# Altium integrated library Flanery.IntLib: 130 symbols (part 1 of 2)
Pins are listed as number, name and electrical type; pins without a type are passive.

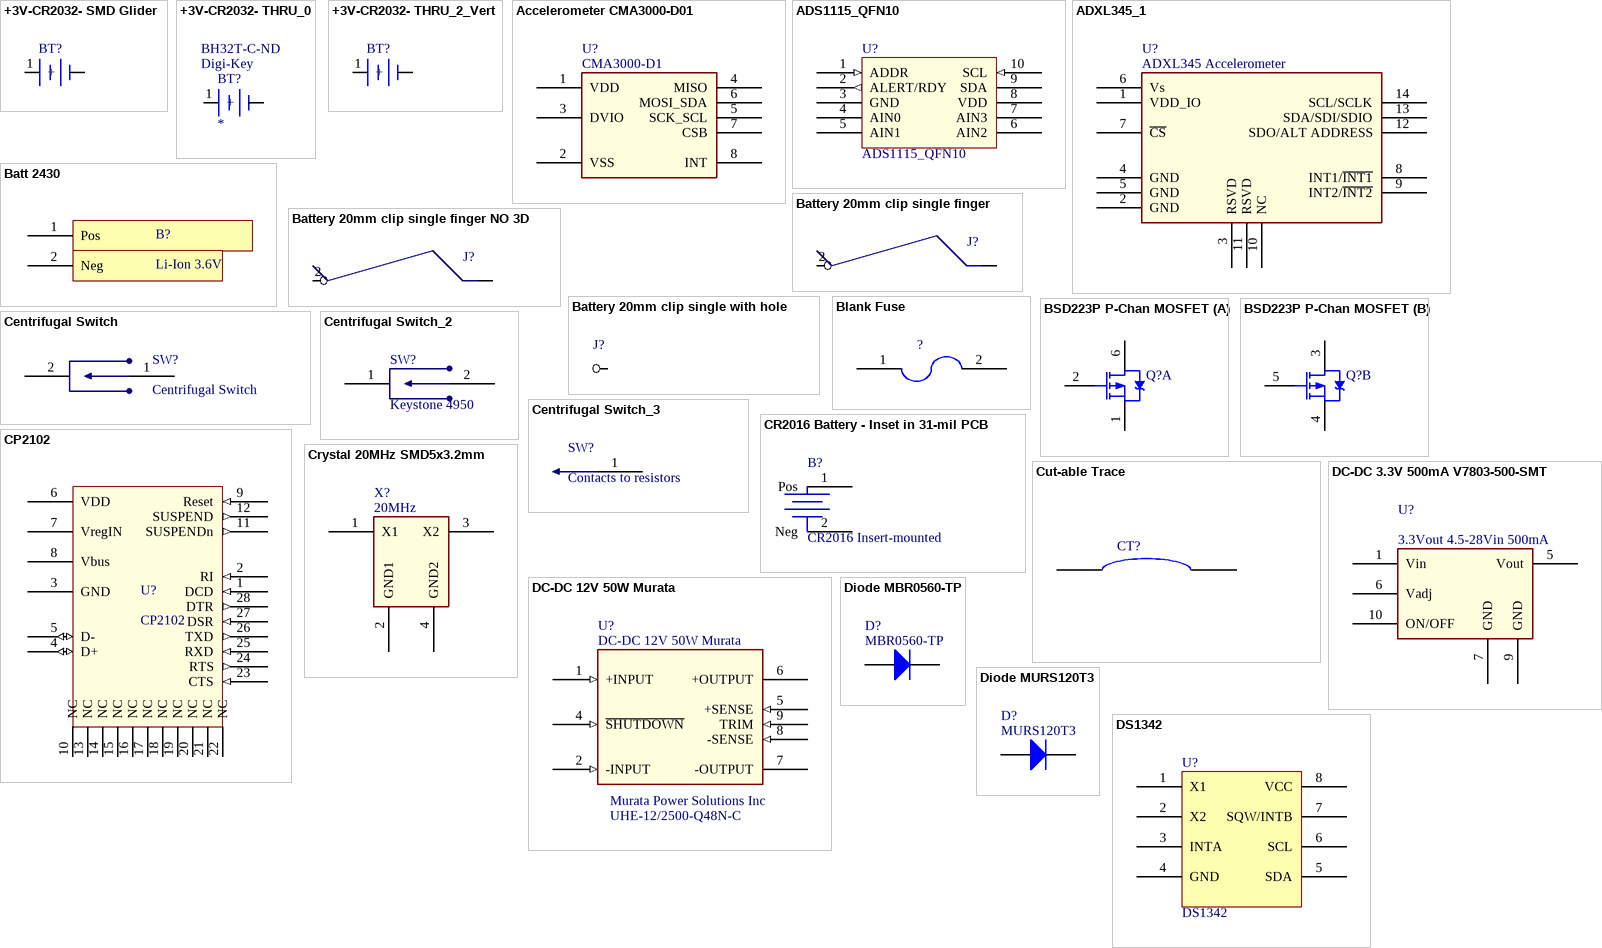
[diagram p0: symbols +3V-CR2032- SMD Glider to DS1342]

## +3V-CR2032- SMD Glider
designator BT?  (value not drawn)
Horizontal, slide-in with tray; Supplier 1: Digi-Key
footprint Batt 2032 Holder_3 (Glider SMD slide-in with tray MPD BHX1-2032-SM)
pins: 1 +, 2 -

## +3V-CR2032- THRU_0
designator BT?  Supplier 1: Digi-Key  Supplier Part Number 1: BH32T-C-ND
Mating Part Number: P189-ND; Manufacturer Part Number: BH32T-C; Footprint: CR2032_+1-2_THRU
footprint BR2032_+1-2
pins: 1 +, 2 -

## +3V-CR2032- THRU_2_Vert
designator BT?  (value not drawn)
Vertical or maybe Horizontal-board-edge mount; Supplier 1: Digi-Key
footprint Batt 2032 Holder_2 (Vertical, slide-in, Memory Protection Devices BS-5, possible board-edge mount)
pins: 1 +, 2 -

## Accelerometer CMA3000-D01
designator U?, comment CMA3000-D1
Accelerometer 2x2x1mm ultra low power; Fabrication Tested: NO; Creator and Date: Will Flanery 2010-08-23; Footprint Verified By: *; Schematic Verified By: *; Vendor Info Verified By: *; Supplier 1: Digi-Key
footprint CMA300-D0x (VTI Tech Accelerometer)
pins: 1 VDD, 2 VSS, 3 DVIO, 4 MISO, 5 SCK_SCL, 6 MOSI_SDA, 7 CSB, 8 INT

## ADS1115_QFN10
designator U?
TI A/D 4Chan uPower I2C; Supplier 1: Digi-Key; HelpURL: http://focus.ti.com/lit/ds/symlink/ads1113.pdf
footprint QFN-10 QFN50P200X150X40-10L (QFN, 10-Leads, Body 1.5x2.0mm (max), Pitch 0.50mm, IPC High Density  TI's RUG)
pins: 1 ADDR (in), 2 ALERT/RDY (out), 3 GND, 4 AIN0, 5 AIN1, 6 AIN2, 7 AIN3, 8 VDD, 9 SDA (oc), 10 SCL (in)

## ADXL345_1
designator U?, comment ADXL345 Accelerometer
Accelerometer +-2g low-power 3x5x1mm; Manufacturer: Analog Devices Inc; Manufacturer Part Number: ADXL345BCCZ-RL7; Fabrication Tested: NO; Creator and Date: Will Flanery 2010-08-23; Footprint Verified By: *; Schematic Verified By: *; Vendor Info Verified By: *; HelpURL: http://www.analog.com/static/imported-files/data_sheets/ADXL345.pdf; Supplier 1: Digi-Key; Supplier Part Number 1: ADXL345BCCZ-RL7CT-ND; Supplier 2: Newark; Supplier Part Number 2: 04R8114
footprint LGA14 3x5mm (For ADXL345 Accelerometer)
pins: 1 VDD_IO, 2 GND, 3 RSVD, 4 GND, 5 GND, 6 Vs, 7 ~{CS}, 8 INT1/~{INT1}, 9 INT2/~{INT2}, 10 NC, 11 RSVD, 12 SDO/ALT ADDRESS, 13 SDA/SDI/SDIO, 14 SCL/SCLK

## Batt 2430
designator B?, comment Li-Ion 3.6V
Battery Holder 2430 coin cell flush-mount; Supplier 1: Digi-Key
footprint Batt Coin 2430 (SMD holder for coin cell battery, flat onto PCB.  Available 3.0V Lithium or 3.6V rechargable Li-Ion)
pins: 1 Pos "positive", 2 Neg "Negative"

## Battery 20mm clip single finger
designator J?
Fabrication Tested: NO; Creator and Date: Will Flanery; Footprint Verified By: *; Schematic Verified By: *; Vendor Info Verified By: *
footprint Battery 20mm spring-clip (Single clip for + or - battery connection with allignment silkscreen)
pins: 1, 2

## Battery 20mm clip single finger NO 3D
designator J?
Fabrication Tested: NO; Creator and Date: Will Flanery; Footprint Verified By: *; Schematic Verified By: *; Vendor Info Verified By: *
footprint Battery 20mm spring-clip -NO 3-D (No 3D body Single clip for + or - battery connection with allignment silkscreen)
pins: 1, 2

## Battery 20mm clip single with hole
designator J?
Fabrication Tested: NO; Creator and Date: Will Flanery; Footprint Verified By: *; Schematic Verified By: *; Vendor Info Verified By: *
footprint Battery 20mm clip single finger w/ hole (Single clip for + or - battery connection with allignment silkscreen)
pins: 1

## Blank Fuse
designator ?
pins: 1, 2

## BSD223P P-Chan MOSFET
designator Q?  (value not drawn)
HEXFET Power MOSFET; Supplier 1: Digi-Key
footprint SOT-363 (SOT-363/SC-88; 6 Leads; Body 2.2 x 2.2 mm, inc. leads (LxW max))
part A pins: 1 S, 2 G, 6 D
part B pins: 3 D, 4 S, 5 G

## Centrifugal Switch
designator SW?
Spring-and-Post
footprint Centrifugal Switch1 (Spring and post)
pins: 1, 2

## Centrifugal Switch_2
designator SW?, comment Keystone 4950
Testpoint laid horizontal, and short length of wire; Fabrication Tested: NO; Creator and Date: Will Flanery 2011-05-25; Footprint Verified By: *; Schematic Verified By: *; Vendor Info Verified By: *; Value: Keystone 4950; HelpURL: http://www.keyelco.com/pdfs/prod20-testpoints.pdf; Mass (place origin at center): *
footprint Centrifugal Switch_2 (Thin wire touches resistor pad)
pins: 1, 2

## Centrifugal Switch_3
designator SW?, comment Contacts to resistors
Just a short length of wire.  Use resistors as contacts; Fabrication Tested: NO; Creator and Date: Will Flanery 2011-05-25; Footprint Verified By: *; Schematic Verified By: *; Vendor Info Verified By: *; HelpURL: http://www.keyelco.com/pdfs/prod20-testpoints.pdf; Mass (place origin at center): *
footprint Centrifugal Switch_3 (Thin wire touches resistor pad)
pins: 1

## CP2102
designator U?
USB to UART Bridge; Supplier 1: Digi-Key
footprint QFN50P500X500X100-28N (QFN, 28-Leads, Body 5.0x5.0mm (max), Pitch 0.50mm, IPC Medium Density)
pins: 1 DCD (in), 2 RI (in), 3 GND, 4 D+ (io), 5 D- (io), 6 VDD, 7 VregIN, 8 Vbus, 9 Reset (in), 10 NC, 11 SUSPENDn (out), 12 SUSPEND (out), 13 NC, 14 NC, 15 NC, 16 NC, 17 NC, 18 NC, 19 NC, 20 NC, 21 NC, 22 NC, 23 CTS (in), 24 RTS (out), 25 RXD (in), 26 TXD (out), 27 DSR (in), 28 DTR (out)

## CR2016 Battery - Inset in 31-mil PCB
designator B?, comment CR2016 Insert-mounted
31-mil PCB thickness; Fabrication Tested: NO; Creator and Date: Will Flanery 2011-05-23; Footprint Verified By: *; Schematic Verified By: *; Vendor Info Verified By: *; Value: CR2016 Insert-mounted; HelpURL: *; Mass (place origin at center): *; Supplier 1: Digi-Key; Supplier 2: Digi-Key; Supplier Part Number 2: N138-ND; Supplier 3: Newark; Supplier Part Number 3: 15C6544
footprint Battery 20mm flush/hole mount (For 2032 in 62mil PCB, or 2016 in 31mil PCB)
pins: 1 Pos, 2 Neg

## Crystal 20MHz SMD5x3.2mm
designator X?, comment 20MHz
10pF +-10%; Fabrication Tested: NO; Creator and Date: Will Flanery 2011-07-28; Footprint Verified By: *; Schematic Verified By: *; Vendor Info Verified By: *; Value: 20MHz; HelpURL: http://www.abracon.com/Resonators/abm3b.pdf; Mass (place origin at center): *; Supplier 1: Digi-Key
pins: 1 X1, 2 GND1, 3 X2, 4 GND2

## Cut-able Trace
designator CT?  (no BOM)
8x44mil trace without SolderMask.  Use for config instead of 0-Ohm resistor; Fabrication Tested: NO; Creator and Date: Will Flanery; Footprint Verified By: *; Schematic Verified By: *; Vendor Info Verified By: *
footprint Cut-able trace 8x44mil (Use instead of 0-Ohm resistor.)
pins: 1, 2

## DC-DC 3.3V 500mA V7803-500-SMT
designator U?, comment 3.3Vout 4.5-28Vin 500mA
4.5-28Vin Buck module 500mA 15x12x7mm; Manufacturer: V7803-500-SMT; Fabrication Tested: NO; Creator and Date: Will Flanery 2010-07-09; Footprint Verified By: *; Schematic Verified By: *; Vendor Info Verified By: *; Supplier 1: Digi-Key
footprint V78xx-500-SMT (Voltage Regulator module)
pins: 1 Vin, 5 Vout, 6 Vadj, 7 GND, 9 GND, 10 ON/OFF "Float or high=on, GND=OFF"

## DC-DC 12V 50W Murata
designator U?  Manufacturer Part Number: UHE-12/2500-Q48N-C  Manufacturer: Murata Power Solutions Inc
DC-DC converter module, 18-75VIN, 12VOUT isolated, Murata 1.5"x1.9"x0.38"; Voltage - Input: 18 ~ 75V; Efficiency: 90.5%; Ripple: 10mA; 1st Output: 12 VDC @ 2.5A; Power (Watts): 30W; Number of Outputs: 1; Description: CONV DC/DC 2.5A 12V T/H; Inventory Location: Hoodwink Spares; Supplier 1: Digi-Key; Category: Power Supplies; Output: 12V; Package / Case: 9-DIP Module (7 Leads); Mounting Type: Through Hole; Operating Temperature: -40°C ~ 85°C; Type: Isolated; Size / Dimension: 2.00" L x 1.60" W x 0.40" H (50.8mm x 40.6mm x 10.2mm); ComponentLink1URL: http://www.murata-ps.com/data/power/mdc_uei-50-60w.pdf; ComponentLink1Description: http://www.murata-ps.com/data/power/mdc_uei-50-60w.pdf; Stock: 20; Pricing: 1=64.6, 5=62.7, 10=61.75, 25=60.8, 50=58.9, 100=57, 250=53.2, 500=49.4, 1000=47.5 (USD)
footprint Murata Case C74
pins: 1 +INPUT (in), 2 -INPUT (in), 4 ~{SHUTDOWN} (in) "Internal PullUp. Can leave NC", 5 +SENSE (in), 6 +OUTPUT (power), 7 -OUTPUT (power), 8 -SENSE (in), 9 TRIM (in) "Leave NC for nominal voltage"

## Diode MBR0560-TP
designator D?, comment MBR0560-TP
700mV Vf, 0.5A, 60Vrev, 200uA Irev; Fabrication Tested: NO; Creator and Date: Will Flanery 2010-07-14; Footprint Verified By: *; Schematic Verified By: *; Vendor Info Verified By: *; Supplier 1: Digi-Key
footprint SOD123/X.85 (SOD-123; 2 Leads; Body 2.7 x 1.6 mm, (LxW))
pins: 1, 2

## Diode MURS120T3
designator D?, comment MURS120T3
875mV Vf, 2A, 200Vrev, 2uA Irev; Fabrication Tested: NO; Creator and Date: Will Flanery 2010-07-12; Footprint Verified By: *; Schematic Verified By: *; Vendor Info Verified By: *; Supplier 1: Digi-Key; Supplier Part Number 1: MURS120-FDICT-ND; Supplier 2: Digi-Key; Supplier Part Number 2: MURS120-FDITR-ND
footprint DO-214AA
pins: A, K

## DS1342
designator U?
RTC - ultra-low current; Fabrication Tested: NO; Creator and Date: Will Flanery 2011-07-31; Footprint Verified By: *; Schematic Verified By: *; Vendor Info Verified By: *; Value: DS1342; HelpURL: http://datasheets.maxim-ic.com/en/ds/DS1341-DS1342.pdf; Mass (place origin at center): *; Supplier 1: Mouser; Supplier Part Number 1: 700-DS1342U
footprint uSOP8 (Maxim)
pins: 1 X1, 2 X2, 3 INTA, 4 GND, 5 SDA, 6 SCL, 7 SQW/INTB, 8 VCC (power)

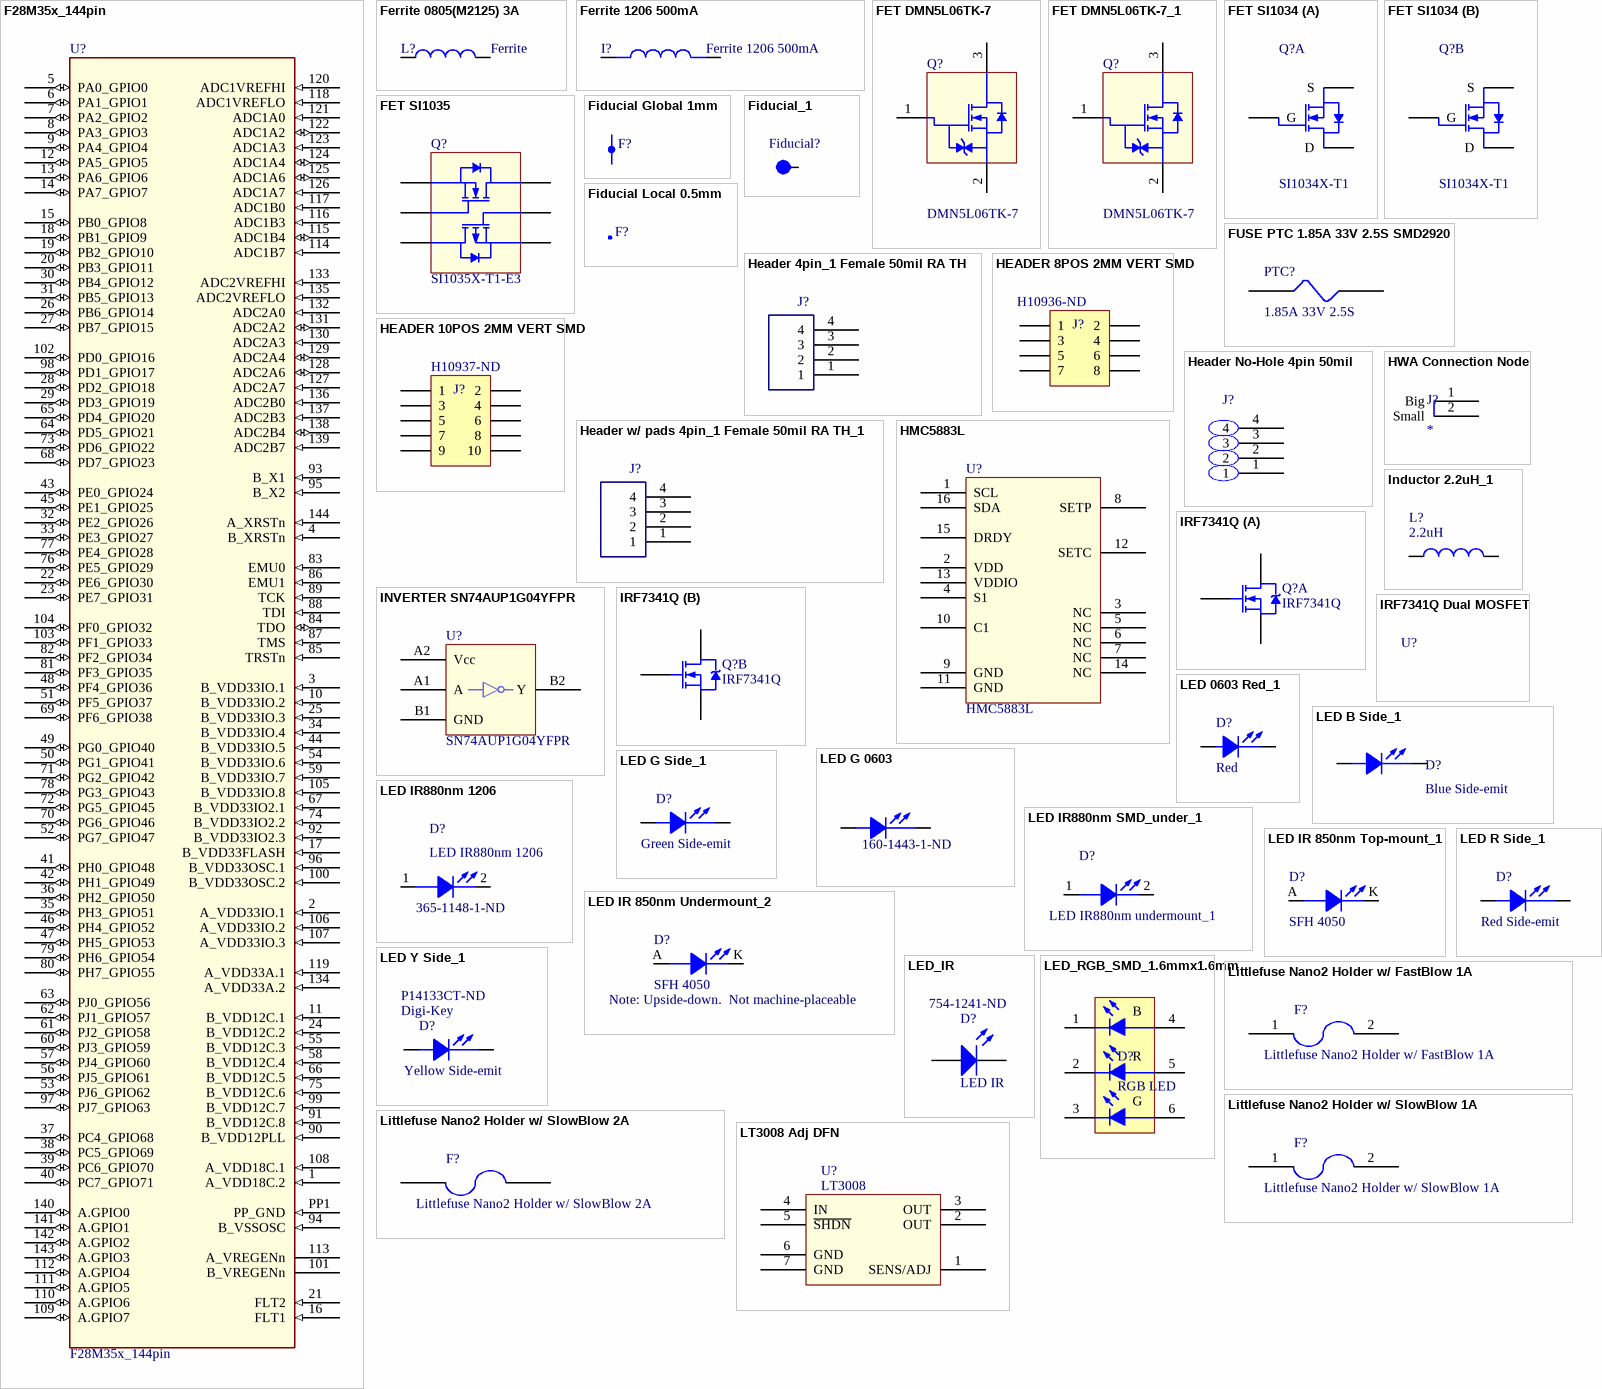
[diagram p1: symbols F28M35x_144pin to LT3008 Adj DFN]

## F28M35x_144pin
designator U?
TI Concerto MCU; Fabrication Tested: NO; Value: NA; Creator and Date: Will Flanery 2011-07-27; Footprint Verified By: *; Schematic Verified By: *; Vendor Info Verified By: *; HelpURL: *; Mass (place origin at center): *
pins: 1 A_VDD18C.2 (in), 2 A_VDD33IO.1 (in), 3 B_VDD33IO.1 (in), 4 B_XRSTn (in), 5 PA0_GPIO0 (io), 6 PA1_GPIO1 (io), 7 PA2_GPIO2 (io), 8 PA3_GPIO3 (io), 9 PA4_GPIO4 (io), 10 B_VDD33IO.2 (in), 11 B_VDD12C.1 (in), 12 PA5_GPIO5 (io), 13 PA6_GPIO6 (io), 14 PA7_GPIO7 (io), 15 PB0_GPIO8 (io), 16 FLT1 (in), 17 B_VDD33FLASH (in), 18 PB1_GPIO9 (io), 19 PB2_GPIO10 (io), 20 PB3_GPIO11 (io), 21 FLT2 (in), 22 PE6_GPIO30 (io), 23 PE7_GPIO31 (io), 24 B_VDD12C.2 (in), 25 B_VDD33IO.3 (in), 26 PB6_GPIO14 (io), 27 PB7_GPIO15 (io), 28 PD2_GPIO18 (io), 29 PD3_GPIO19 (io), 30 PB4_GPIO12 (io), 31 PB5_GPIO13 (io), 32 PE2_GPIO26 (io), 33 PE3_GPIO27 (io), 34 B_VDD33IO.4 (in), 35 PH3_GPIO51 (io), 36 PH2_GPIO50 (io), 37 PC4_GPIO68 (io), 38 PC5_GPIO69 (io), 39 PC6_GPIO70 (io), 40 PC7_GPIO71 (io), 41 PH0_GPIO48 (io), 42 PH1_GPIO49 (io), 43 PE0_GPIO24 (io), 44 B_VDD33IO.5 (in), 45 PE1_GPIO25 (io), 46 PH4_GPIO52 (io), 47 PH5_GPIO53 (io), 48 PF4_GPIO36 (io), 49 PG0_GPIO40 (io), 50 PG1_GPIO41 (io), 51 PF5_GPIO37 (io), 52 PG7_GPIO47 (io), 53 PJ6_GPIO62 (io), 54 B_VDD33IO.6 (in), 55 B_VDD12C.3 (in), 56 PJ5_GPIO61 (io), 57 PJ4_GPIO60 (io), 58 B_VDD12C.4 (in), 59 B_VDD33IO.7 (in), 60 PJ3_GPIO59 (io), 61 PJ2_GPIO58 (io), 62 PJ1_GPIO57 (io), 63 PJ0_GPIO56 (io), 64 PD5_GPIO21 (io), 65 PD4_GPIO20 (io), 66 B_VDD12C.5 (in), 67 B_VDD33IO2.1 (in), 68 PD7_GPIO23 (io), 69 PF6_GPIO38 (io), 70 PG6_GPIO46 (io), 71 PG2_GPIO42 (io), 72 PG5_GPIO45 (io), 73 PD6_GPIO22 (io), 74 B_VDD33IO2.2 (in), 75 B_VDD12C.6 (in), 76 PE5_GPIO29 (io), 77 PE4_GPIO28 (io), 78 PG3_GPIO43 (io), 79 PH6_GPIO54 (io), 80 PH7_GPIO55 (io), 81 PF3_GPIO35 (io), 82 PF2_GPIO34 (io), 83 EMU0 (in), 84 TDO (io), 85 TRSTn (in), 86 EMU1 (in), 87 TMS (in), 88 TDI (in), 89 TCK (in), 90 B_VDD12PLL (in), 91 B_VDD12C.8 (in), 92 B_VDD33IO2.3 (in), 93 B_X1 (in), 94 B_VSSOSC (in), 95 B_X2 (in), 96 B_VDD33OSC.1 (in), 97 PJ7_GPIO63 (io), 98 PD1_GPIO17 (io), 99 B_VDD12C.7 (in), 100 B_VDD33OSC.2 (in), 101 B_VREGENn, 102 PD0_GPIO16 (io), 103 PF1_GPIO33 (io), 104 PF0_GPIO32 (io), 105 B_VDD33IO.8 (in), 106 A_VDD33IO.2 (in), 107 A_VDD33IO.3 (in), 108 A_VDD18C.1 (in), 109 A.GPIO7 (io), 110 A.GPIO6 (io), 111 A.GPIO5 (io), 112 A.GPIO4 (io), 113 A_VREGENn, 114 ADC1B7 (in), 115 ADC1B4 (io), 116 ADC1B3 (in), 117 ADC1B0 (in), 118 ADC1VREFLO (in), 119 A_VDD33A.1 (in), 120 ADC1VREFHI (in), 121 ADC1A0 (in), 122 ADC1A2 (io), 123 ADC1A3 (in), 124 ADC1A4 (io), 125 ADC1A6 (io), 126 ADC1A7 (in), 127 ADC2A7 (in), 128 ADC2A6 (io), 129 ADC2A4 (io), 130 ADC2A3 (in), 131 ADC2A2 (io), 132 ADC2A0 (in), 133 ADC2VREFHI (in), 134 A_VDD33A.2 (in), 135 ADC2VREFLO (in), 136 ADC2B0 (in), 137 ADC2B3 (in), 138 ADC2B4 (io), 139 ADC2B7 (in), 140 A.GPIO0 (io), 141 A.GPIO1 (io), 142 A.GPIO2 (io), 143 A.GPIO3 (io), 144 A_XRSTn (in), PP1 PP_GND (in)

## Ferrite 0805(M2125) 3A
designator L?, comment Ferrite
Ferrite 25mOhm@DC,  60 Ohm@100MHz; Fabrication Tested: NO; Value: 9999999999999; Creator and Date: Design Engineer's Name; Footprint Verified By: *; Schematic Verified By: *; Vendor Info Verified By: *; HelpURL: http://www.yuden.co.jp/ut/product/pdf/mlci08_e.pdf; Mass (place origin at center): *; Supplier 1: Digi-Key; Supplier Part Number 1: 587-1932-1-ND; Supplier 2: Newark; Supplier Part Number 2: 73M9170
footprint 0805 (M2125) Ferrite (Chip Resistor; Body 2.0 x 1.3 mm (LxW typ))
pins: 1, 2

## Ferrite 1206 500mA
designator I?
Supplier 1: Digi-Key; Supplier Part Number 1: 240-2415-1-ND
footprint INDC1206(3216)AL (Chip Inductor, Body 3.2x1.6mm, IPC High Density)
pins: 1 Pri+, 2 Pri-

## FET DMN5L06TK-7
designator Q?, comment DMN5L06TK-7
Ultra-low leakage Enhanced MOSFET; Fabrication Tested: NO; Creator and Date: Will Flanery 2010-09-02; Footprint Verified By: *; Schematic Verified By: *; Vendor Info Verified By: *; Supplier 1: Digi-Key; Supplier Part Number 1: DMN5L06TKDICT-ND; HelpURL: http://www.diodes.com/datasheets/ds30926.pdf
footprint SOT-523 (For Diodes Inc MOSFET DMN5L06TK)
pins: 1 G, 2 S, 3 D

## FET DMN5L06TK-7_1
designator Q?, comment DMN5L06TK-7
Ultra-low leakage Enhanced MOSFET; Fabrication Tested: NO; Creator and Date: Will Flanery 2010-09-02; Footprint Verified By: *; Schematic Verified By: *; Vendor Info Verified By: *; Supplier 1: Digi-Key; Supplier Part Number 1: DMN5L06TKDICT-ND; HelpURL: http://www.diodes.com/datasheets/ds30926.pdf
footprint SOT-523 (For Diodes Inc MOSFET DMN5L06TK)
pins: 1 G, 2 S, 3 D

## FET SI1034
designator Q?, comment SI1034X-T1
Dual N Enhanced MOSFET; Fabrication Tested: NO; Creator and Date: *; Footprint Verified By: *; Schematic Verified By: *; Vendor Info Verified By: *; Supplier 1: Digi-Key; Supplier Part Number 1: SI1034X-T1-GE3CT-ND
footprint SC89 (SOT-563F) (For Vishay Si1035)
part A pins: 1 S, 2 G, 6 D
part B pins: 3 D, 4 S, 5 G

## FET SI1035
designator Q?, comment SI1035X-T1-E3
Dual P,N Enhanced MOSFET; Fabrication Tested: NO; Creator and Date: *; Footprint Verified By: *; Schematic Verified By: *; Vendor Info Verified By: *; Supplier 1: Digi-Key; Supplier Part Number 1: SI1035X-T1-E3CT-ND
footprint SC89 (SOT-563F) (For Vishay Si1035)
pins: 1 S1, 2 G1, 3 D2, 4 S2, 5 G2, 6 D1

## Fiducial Global 1mm
designator F?  (value not drawn)  (no BOM)
1mm Assembly alignment mark
footprint Fiducial Global 1mm
footprint Fiducial Global 1mm
pins: 1

## Fiducial Local 0.5mm
designator F?  (value not drawn)  (no BOM)
0.5mm Assembly alignment mark
footprint Fiducial Local 0.5mm
pins: 1

## Fiducial_1
designator Fiducial?, comment Fiducial Mark 1mm  (value not drawn)  (no BOM)
1mm Pick-and-Place alignment point; Fabrication Tested: NO; Creator and Date: Will Flanery 3/19/2010; Footprint Verified By: *; Schematic Verified By: *; Vendor Info Verified By: *
footprint Fiducial 1mm (Assembly alignment mark 1mm copper circle, 3mm soldermask)
pins: 0

## FUSE PTC 1.85A 33V 2.5S SMD2920
designator PTC?, comment 1.85A 33V 2.5S
PTC Resettable Fuse; Manufacturer Part Number: 2920L185DR; Manufacturer: Littelfuse Inc; Current - Max: 40A; R Min/Max: 0.065 ~ 0.150 Ohm; Current - Trip (It): 3.7A; ComponentLink1URL: http://www.littelfuse.com/data/en/Data_Sheets/Littelfuse_PTC_2920L.pdf; ComponentLink1Description: http://www.littelfuse.com/data/en/Data_Sheets/Littelfuse_PTC_2920L.pdf; Pricing: 1=0.78, 10=0.721, 100=0.6061, 500=0.47026 (USD); Stock: 4329; Time to Trip: 2.5s; Voltage - Max: 33V; Category: Circuit Protection; Current - Hold (Ih) (Max): 1.85A; RoHS: RoHS Compliant
footprint SMD2920
pins: 1, 2

## Header 4pin_1 Female 50mil RA TH
designator J?
Sullins 4-pin Female 50mil right angle, through hole; Fabrication Tested: NO; Creator and Date: Will Flanery 2010-07-08; Footprint Verified By: *; Schematic Verified By: *; Vendor Info Verified By: *; Supplier 1: Digi-Key; Supplier Part Number 1: S9010E-04-ND
footprint Header 4pin 50mil TH RA (50mil right-angle through-hole header 4-pin)
pins: 1, 2, 3, 4

## HEADER 8POS 2MM VERT SMD
designator J?  Supplier Part Number 1: H10936-ND  (hidden comment: *)
Header 2mm 8pos SMD; Supplier 1: Digi-Key
footprint Header 8POS 2mm SMD (no board guide)
pins: 1, 2, 3, 4, 5, 6, 7, 8

## HEADER 10POS 2MM VERT SMD
designator J?  Supplier Part Number 1: H10937-ND  (hidden comment: *)
Header 2mm 10pos SMD; Supplier 1: Digi-Key
footprint Header 10POS 2mm SMD (no board guide)
pins: 1, 2, 3, 4, 5, 6, 7, 8, 9, 10

## Header No-Hole 4pin 50mil
designator J?
Pads for spring-contact; Fabrication Tested: NO; Creator and Date: Will Flanery 2010-09-08; Footprint Verified By: *; Schematic Verified By: *; Vendor Info Verified By: *
footprint Header No-Hole 4pin 50mil (No-hole spring-contact pads 4-pin 50mil)
pins: 1, 2, 3, 4

## Header w/ pads 4pin_1 Female 50mil RA TH_1
designator J?
Sullins 4-pin Female 50mil right angle, through hole; Fabrication Tested: NO; Creator and Date: Will Flanery 2010-07-08; Footprint Verified By: *; Schematic Verified By: *; Vendor Info Verified By: *; Supplier 1: Digi-Key; Supplier Part Number 1: S9010E-04-ND
footprint Header w/ pads 4pin 50mil TH RA - duplicate (50mil right-angle through-hole header 4-pin)
pins: 1, 2, 3, 4

## HMC5883L
designator U?
Digital Compass 3-Axis QFN-16; Fabrication Tested: NO; Creator and Date: Will Flanery 2011-05-18; Footprint Verified By: *; Schematic Verified By: *; Vendor Info Verified By: *; HelpURL: http://media.digikey.com/PDF/Data%20Sheets/Honeywell%20PDFs/HMC5883L.pdf; Mass (place origin at center): *; Supplier 1: Newark; Supplier 2: Digi-Key; Supplier Part Number 1: 20T0699; Supplier Part Number 2: 342-1082-1-ND
footprint QFN-16 3x3mm HMC5883L (HMC5833L with compass vector graphic)
pins: 1 SCL, 2 VDD, 3 NC, 4 S1, 5 NC, 6 NC, 7 NC, 8 SETP, 9 GND, 10 C1, 11 GND, 12 SETC, 13 VDDIO, 14 NC, 15 DRDY, 16 SDA

## HWA Connection Node
designator J?  (net tie, no BOM)
footprint HWA Connection (Transition from trace width (12 mils) to Hot Wire Anemometer (2 mils))
pins: 1 Big, 2 Small

## Inductor 2.2uH_1
designator L?, comment 2.2uH
LQH3NPN2R2NJ0L; Fabrication Tested: NO; Creator and Date: Will Flanery 2010-07-13; Footprint Verified By: *; Schematic Verified By: *; Vendor Info Verified By: *; Supplier 1: Digi-Key; Supplier Part Number 1: 490-5344-1-ND
footprint Murata Inductors LQH3NP (SMD inductors 3x3mm, 1.0-47uH)
pins: 1, 2

## INVERTER SN74AUP1G04YFPR
designator U?, comment SN74AUP1G04YFPR
Inverter low-power, uBGA-4; Supplier 1: Digi-Key; Supplier Part Number 1: 296-21055-1-ND
footprint BGA-4 DSBGA-4  BGA4C40P2X2_77X77X50 (BGA, 4-Leads, Body 0.8x0.8mm,  Pitch 0.40mm)
pins: A1 A, A2 Vcc, B1 GND, B2 Y

## IRF7341Q
designator Q?
HEXFET Power MOSFET
simulation model IRF7341Q (SUBCKT)
part A pins: 1 G, 5 S, 6 D
part B pins: 2 S, 3 G, 4 D

## IRF7341Q Dual MOSFET
designator U?
Fabrication Tested: NO; Creator and Date: *; Footprint Verified By: *; Schematic Verified By: *; Vendor Info Verified By: *

## LED 0603 Red_1
designator D?, comment Red
Osram LSQ976-Z; Fabrication Tested: NO; Mass (place origin at center): 1.4mg; Creator and Date: Will Flanery 2011-05-20; Footprint Verified By: *; Schematic Verified By: *; Vendor Info Verified By: *; Value: Red; HelpURL: http://catalog.osram-os.com/catalogue/catalogue.do?act=showBookmark&favOid=00000000000300210005003a; Supplier 1: Newark; Supplier Part Number 1: 05M0541
footprint LED 0603 Red (LED SMD Body 1.6 x 0.8 mm (LxW typ))
pins: 1 ANODE, 2 CATHODE

## LED B Side_1
designator D?, comment Blue Side-emit
Blue Side-emitter SMD 2.9V 5mA 1.2mmx1.8x.5; Fabrication Tested: NO; Inventory Location: IFF Box1T2B4; Creator and Date: Will Flanery 2010-02-11; Footprint Verified By: *; Schematic Verified By: *; Vendor Info Verified By: *; Supplier 1: Digi-Key; Supplier Part Number 1: 475-2725-1-ND
footprint LED Side_1 B (Side-Emitting Blue Panasonic LNJ)
pins: 1 ANODE, 2 CATHODE

## LED G 0603
designator U?  Supplier Part Number 1: 160-1443-1-ND
Fabrication Tested: NO; Inventory Location: None; Creator and Date: Will Flanery 2010-02-10; Footprint Verified By: *; Schematic Verified By: *; Vendor Info Verified By: *; Supplier 1: Digi-Key
footprint 0603 (Chip Capacitor; Body 1.6 x 0.8 mm (LxW typ))
pins: 1 ANODE, 2 CATHODE

## LED G Side_1
designator D?, comment Green Side-emit
Green Side-emitter SMD 1.95V 5mA 1.2mmx1.8x.5; Fabrication Tested: NO; Inventory Location: IFF Box1T2B3; Creator and Date: Will Flanery 2010-02-11; Footprint Verified By: *; Schematic Verified By: *; Vendor Info Verified By: *; Supplier 1: Digi-Key; Supplier Part Number 1: P14132CT-ND
footprint LED Side_1 G (Side-Emitting Green Panasonic LNJ)
pins: 1 ANODE, 2 CATHODE

## LED IR880nm 1206
designator D?  Supplier Part Number 1: 365-1148-1-ND
LED IR880nm 1206 1.5V 50mA; Fabrication Tested: NO; Inventory Location: IFF Box1T2B6; Creator and Date: *; Footprint Verified By: *; Schematic Verified By: *; Vendor Info Verified By: *; Supplier 1: Digi-Key
footprint 1206 IR_LED (Chip Resistor; Body 3.2 x 1.6 mm (LxW typ))
pins: 1 ANODE, 2 CATHODE

## LED IR880nm SMD_under_1
designator D?, comment LED IR880nm undermount_1
LED IR880nm U_mnt 1.5V 50mA; Fabrication Tested: NO; Inventory Location: IFF Box1T2A5; Creator and Date: Will Flanery 2010-02-17; Footprint Verified By: *; Schematic Verified By: *; Vendor Info Verified By: *; Supplier 1: Digi-Key; Supplier Part Number 1: 365-1153-1-ND
footprint LED SMD Undermount_1 (Undermount LED)
pins: 1 ANODE, 2 CATHODE

## LED IR 850nm Top-mount_1
designator D?, comment SFH 4050
Small IR LED; Fabrication Tested: NO; Creator and Date: Will Flanery 2010-08-31; Footprint Verified By: *; Schematic Verified By: *; Vendor Info Verified By: *; Supplier 1: Digi-Key; Supplier Part Number 1: 475-2864-1-ND; Supplier 2: Newark; Supplier Part Number 2: 59M1929
footprint LED IR SFH4050 Top-mount (Osram non-standard IR LED)
pins: A, K

## LED IR 850nm Undermount_2
designator D?, comment SFH 4050  Note: Upside-down.  Not machine-placeable
LED not intended for bottom-mounting.  Upside-down from orientation in reel tape.; Fabrication Tested: NO; Creator and Date: Will Flanery 2010-08-31; Footprint Verified By: *; Schematic Verified By: *; Vendor Info Verified By: *; Supplier 1: Digi-Key; Supplier Part Number 1: 475-2864-1-ND; Supplier 2: Newark; Supplier Part Number 2: 59M1929
footprint LED IR SFH4050 bottom-mount (Osram non-standard IR LED)
pins: A, K

## LED R Side_1
designator D?, comment Red Side-emit
Red Side-emitter SMD 1.85V 10mA 1.2mmx1.8x.5; Fabrication Tested: NO; Inventory Location: IFF Box1T1B5; Creator and Date: Will Flanery 2010-02-11; Footprint Verified By: *; Schematic Verified By: *; Vendor Info Verified By: *; Supplier 1: Digi-Key; Supplier Part Number 1: 475-2768-1-ND; Supplier 2: Digi-Key; Supplier Part Number 2: P14179CT-ND
footprint LED Side_1 R (Side-Emitting Red Panasonic LNJ)
pins: 1 ANODE, 2 CATHODE

## LED Y Side_1
designator D?, comment Yellow Side-emit  Supplier 1: Digi-Key  Supplier Part Number 1: P14133CT-ND
Yellow Side-emitter SMD 1.95V 5mA 1.2mmx1.8x.5; Fabrication Tested: NO; Inventory Location: IFF Box1T2C5; Creator and Date: Will Flanery 2010-02-11; Footprint Verified By: *; Schematic Verified By: *; Vendor Info Verified By: *
footprint LED Side_1 Y (Side-Emitting Yellow Panasonic LNJ)
pins: 1 ANODE, 2 CATHODE

## LED_IR
designator D?, comment LED IR  Supplier Part Number 1: 754-1241-ND
LED IR 940mn 3mm; Published: 2009-04-01; PackageReference: LED IR; Publisher: Flanery; Supplier 1: Digi-Key
footprint T-1 B (3mm LED, phototransistor, photodiode)
pins: 1 ANODE, 2 Cathode

## LED_RGB_SMD_1.6mmx1.6mm
designator D?, comment RGB LED
RGB LED 2mm x 2mm, 3 independent; Manufacturer: EL-19-337/R6GHBHC-A01; Supplier 2: Mouser; Supplier Part Number 1: 638-19337R6GHBHC-A01
footprint LED RGB 1.6mm x 1.6mm
pins: 1 R, 2 A2, 3 B, 4 G, 5, 6

## Littlefuse Nano2 Holder w/ FastBlow 1A
designator F?
ComponentLink1URL: http://www.littelfuse.com/data/en/Data_Sheets/Littelfuse_fuseblocks_154_155.pdf; ComponentLink1Description: http://www.littelfuse.com/data/en/Data_Sheets/Littelfuse_fuseblocks_154_155.pdf; Pricing: 1=2.62, 10=2.408, 100=2.0242, 500=1.5705 (USD); Stock: 6618; Supplier 1: Digi-Key; Supplier Part Number 1: F1222CT-ND
footprint Littlefuse NANO2 Holder (very small SMD fuse holder)
pins: 1, 2

## Littlefuse Nano2 Holder w/ SlowBlow 1A
designator F?
ComponentLink1URL: http://www.littelfuse.com/data/en/Data_Sheets/Littelfuse_fuseblocks_154_155.pdf; ComponentLink1Description: http://www.littelfuse.com/data/en/Data_Sheets/Littelfuse_fuseblocks_154_155.pdf; Pricing: 1=3.39, 10=3.115, 100=2.6187, 500=2.03176 (USD); Stock: 725; Supplier 1: Digi-Key; Supplier Part Number 1: F1303CT-ND
footprint Littlefuse NANO2 Holder (very small SMD fuse holder)
pins: 1, 2

## Littlefuse Nano2 Holder w/ SlowBlow 2A
designator F?
Manufacturer Part Number: 0154002.DRT; Manufacturer: Littelfuse Inc; Fuse Type: Slow Blow, Long Time Lag; Description: FUSEBLOCK W/2A FUSE SMD SLOW; Stock: 3048; ComponentLink1URL: http://www.littelfuse.com/data/en/Data_Sheets/Littelfuse_fuseblocks_154_155.pdf; ComponentLink1Description: http://www.littelfuse.com/data/en/Data_Sheets/Littelfuse_fuseblocks_154_155.pdf; Category: Circuit Protection; Package / Case: 0.383" L x 0.198" W x 0.150" H (9.73mm x 5.03mm x 3.81mm); Mounting Type: Holder; RoHS: RoHS Compliant; Current: 2A; Supplier 1: Digi-Key; Supplier Part Number 1: F1305CT-ND
footprint Littlefuse NANO2 Holder (very small SMD fuse holder)
pins: 1, 2

## LT3008 Adj DFN
designator U?, comment LT3008
Vreg, Vo=.6-44 Vi=2-45 Io=20mA Iq=3uA; Fabrication Tested: NO; Creator and Date: Will Flanery 2010-08-24; Footprint Verified By: *; Schematic Verified By: *; Vendor Info Verified By: *; Supplier 1: Digi-Key; Supplier Part Number 1: LT3008EDC#TRMPBFCT-ND; Supplier 2: Newark; Supplier Part Number 2: 15R1998
footprint DFN6 2x2mm (Reference LTC DWG # 05-08-1703)
pins: 1 SENS/ADJ, 2 OUT, 3 OUT, 4 IN, 5 ~{SHDN}, 6 GND, 7 GND

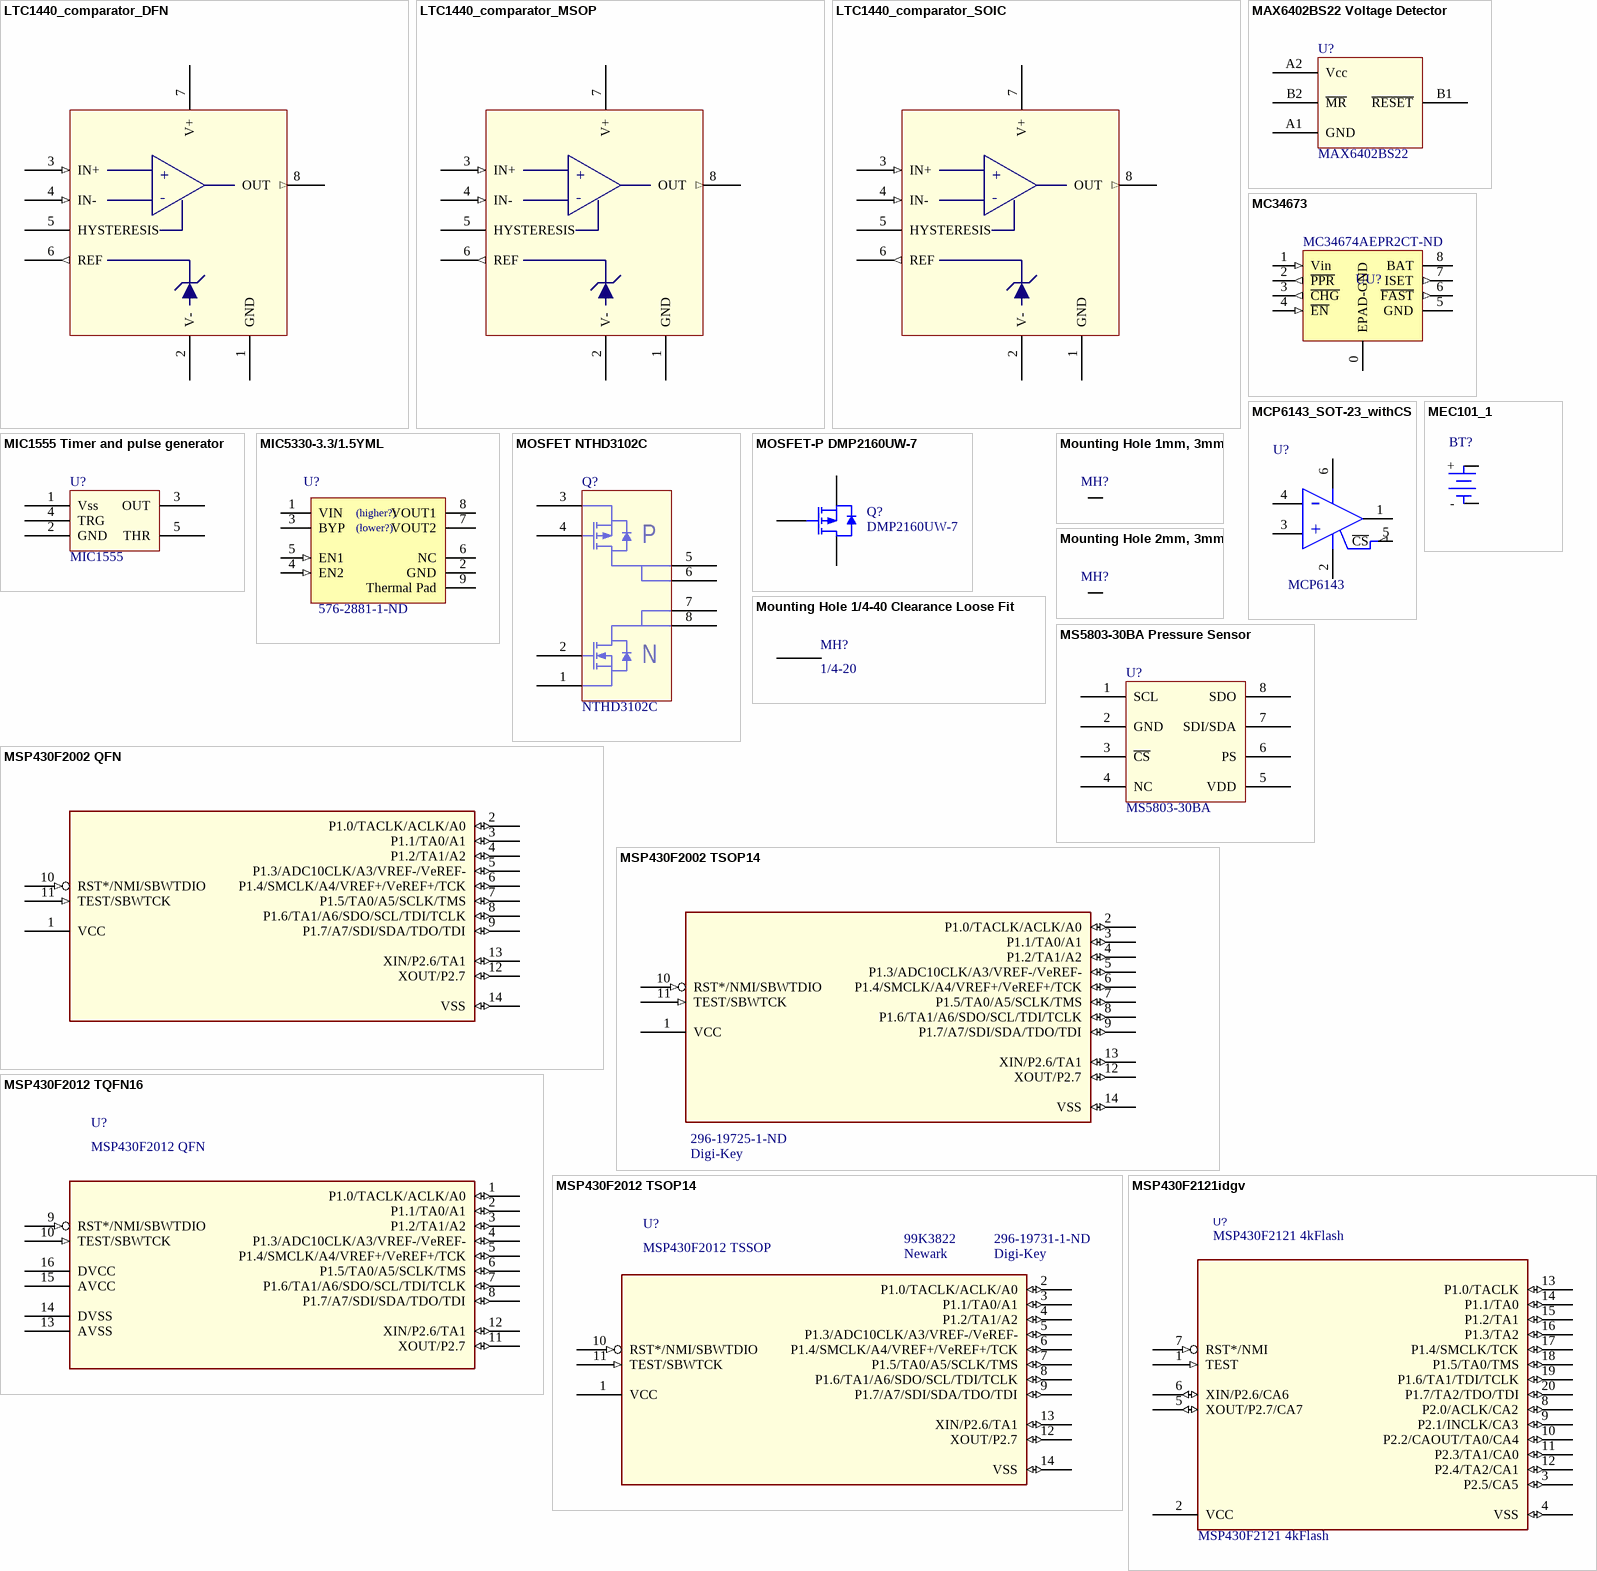
[diagram p2: symbols LTC1440_comparator_DFN to MSP430F2121idgv]

## LTC1440_comparator_DFN
designator U?  Supplier 1: Newark  Supplier Part Number 1: 56M1191
Ultralow power comparator with ref and hysteresis; Fabrication Tested: NO; Inventory Location: None; Creator and Date: Will Flanery 2010-02-10; Schematic Verified By: *; Footprint Verified By: *
simulation model LTC1440 (Version 2.0 Copyright © Linear Technology Corp. 10/19/04. All rights reserved)
footprint DFN8 50P300X300X80-8M (DFN8 , 8-Leads, Body 3x3mm (max), Pitch 0.50mm, IPC Low Density)
pins: 1 GND, 2 V-, 3 IN+ (in), 4 IN- (in), 5 HYSTERESIS, 6 REF (out), 7 V+, 8 OUT (out)
text: +; -

## LTC1440_comparator_MSOP
designator U?  Supplier Part Number 1: LTC1440CMS8#PBF-ND
Ultralow power comparator with ref and hysteresis; Fabrication Tested: NO; Inventory Location: IFF Box1T1C3; Creator and Date: Will Flanery 2010-02-10; Schematic Verified By: *; Footprint Verified By: *; Supplier 1: Digi-Key; Supplier 2: Digi-Key; Supplier Part Number 2: LTC1440CMS8-ND
simulation model LTC1440 (Version 2.0 Copyright © Linear Technology Corp. 10/19/04. All rights reserved)
footprint MSOP8 65P490X115-8N (MSOP, 8-Leads, Body 3.0x3.0mm (max), Pitch 0.65mm, IPC Medium Density)
pins: 1 GND, 2 V-, 3 IN+ (in), 4 IN- (in), 5 HYSTERESIS, 6 REF (out), 7 V+, 8 OUT (out)
text: +; -

## LTC1440_comparator_SOIC
designator U?  Supplier Part Number 1: LTC1440CS8#PBF-ND
Ultralow power comparator with ref and hysteresis; Fabrication Tested: NO; Inventory Location: IFF Box1T1C4; Creator and Date: Will Flanery 2010-02-10; Schematic Verified By: *; Footprint Verified By: *; Supplier 1: Digi-Key; Supplier 2: Newark; Supplier Part Number 2: 56M1187; Supplier 3: Newark; Supplier Part Number 3: 19P0566
simulation model LTC1440 (Version 2.0 Copyright © Linear Technology Corp. 10/19/04. All rights reserved)
footprint SOIC8 127P600X175-8N (SOIC, 8-Leads, Body 5.0x4.0mm (max), Pitch 1.27mm, IPC Medium Density)
pins: 1 GND, 2 V-, 3 IN+ (in), 4 IN- (in), 5 HYSTERESIS, 6 REF (out), 7 V+, 8 OUT (out)
text: +; -

## MAX6402BS22 Voltage Detector
designator U?, comment MAX6402BS22
2.2V Supervisor; Fabrication Tested: NO; Creator and Date: Will Flanery 2010-08-27; Footprint Verified By: *; Schematic Verified By: *; Vendor Info Verified By: *; Supplier 1: Digi-Key; Supplier Part Number 1: MAX6402BS22+TCT-ND
footprint BGA4C50P2X2_100X100X56 (BGA, 4-Leads, Body 1.0x1.0mm,  Pitch 0.50mm)
pins: A1 GND, A2 Vcc, B1 ~{RESET}, B2 ~{MR}

## MC34673
designator UU?  Supplier Part Number 1: MC34674AEPR2CT-ND
Li-Ion battery charger, single cell; Supplier 1: Digi-Key
footprint QFN50P300X200X65-8N (QFN, 8-Leads, Body 2.1x3.1mm (max), Pitch 0.50mm, IPC Medium Density)
pins: 0 EPAD-GND (power) "Thermal Pad Ground", 1 Vin (in) "Vin 2.6 - 6.6V", 2 ~{PPR} (out) "Power Present Indicator", 3 ~{CHG} (out) "Charge  Indicator", 4 ~{EN} (in) "Enable", 5 GND (power) "Ground", 6 ~{FAST} (out) "Fast Charge Indicator", 7 ISET (out) "CC Mode setting", 8 BAT (power) "Charger Out to Li-Ion battery"

## MCP6143_SOT-23_withCS
designator U?, comment MCP6143
Op-Amp 0.6uA QC, 100kHzGBP; Fabrication Tested: NO; Creator and Date: Will Flanery 2010-02-10; Footprint Verified By: *; Schematic Verified By: *; Vendor Info Verified By: *; Supplier 1: Digi-Key; Supplier Part Number 1: MCP6143T-E/CHCT-ND
footprint SOT23 95P280X145-6N (SOT23, 6-Leads, Body 3.0x3.0mm (max), Pitch 0.95mm, IPC Medium Density)
pins: 1 OUT, 2 V-, 3 IN+, 4 IN-, 5 ~{CS}, 6 V+
text: -; +

## MEC101_1
designator BT?
MEC101 Micro Energy Cell 1mAh 1"x1"; Fabrication Tested: NO; Creator and Date: Will Flanery 2010-08-20; Footprint Verified By: *; Schematic Verified By: *; Vendor Info Verified By: *; Supplier 1: Arrow; Supplier Part Number 1: MEC101-10PES
footprint MEC101 (Infinite Power Solutions Micro Energy Cell 1"x1")
pins: NEG -, POS +

## MIC1555 Timer and pulse generator
designator U?, comment MIC1555
Timer chip, pulse generator 5-pin SOT-23; Supplier 1: Digi-Key; Supplier Part Number 1: 576-2576-1-ND; HelpURL: http://www.micrel.com/_PDF/mic1555.pdf
footprint SOT-23-5 SOT95P280X145-5L (SOT23, 5-Leads, Body 3.0x3.0mm (max), Pitch 0.95mm, IPC High Density)
pins: 1 Vss, 2 GND, 3 OUT, 4 TRG, 5 THR

## MIC5330-3.3/1.5YML
designator U?  Supplier Part Number 1: 576-2881-1-ND
1.5 and 3.3V out, 3.4~5.5 in, 300mA LDO Regulator; PackageVersion: Mar-2006; PackageReference: MLF22D-08; PackageDescription: MLF (2mm x 2mm) Ultra-Small, 8 Leads; ComponentLink1Description: Manufacturer Link; ComponentLink1URL: http://www.micrel.com/; ComponentLink2Description: Datasheet; ComponentLink2URL: http://www.micrel.com/_PDF/mic5330.pdf; Supplier 1: Digi-Key
footprint MLF22D-08 (SON 9-Leads, Body 2.0x2.0mm (typ), Pitch 0.50mm)
pins: 1 VIN (power), 2 GND (power), 3 BYP (power), 4 EN2 (in), 5 EN1 (in), 6 NC (power), 7 VOUT2 (power), 8 VOUT1 (power), 9 Thermal Pad (power)
text: (higher?); (lower?)

## MOSFET NTHD3102C
designator Q?, comment NTHD3102C
Dual P,N, tiny 1206-8; Supplier 1: Newark; Supplier Part Number 1: 09R9653
footprint 1206A 8-pin (Micro IC, 8-pin 1206 size)
pins: 1 S1, 2 G1, 3 S2, 4 G2, 5 D2, 6 D2, 7 D1, 8 D1
text: P; N

## MOSFET-P DMP2160UW-7
designator Q?, comment DMP2160UW-7
MOSFET P-ch Low Rds, 20V 1.5A SOT-323; Fabrication Tested: NO; Creator and Date: Will Flanery 2011-08-01; Footprint Verified By: *; Schematic Verified By: *; Vendor Info Verified By: *; Value: DMP2160UW-7; HelpURL: http://www.diodes.com/datasheets/ds31521.pdf; Mass (place origin at center): *; Supplier 1: Newark; Supplier Part Number 1: 23T5606; Supplier 2: Digi-Key; Supplier Part Number 2: DMP2160UWDICT-ND
footprint SOT-323, SC-70 _1 (SOT23, 3-Leads, Body 2.2x2.2mm (max), Pitch 0.65mm, IPC High Density)
pins: 1 G, 2 S, 3 D

## Mounting Hole 1/4-40 Clearance Loose Fit
designator MH?, comment 1/4-20
1/4-40 Clearance Loose Fit; Fabrication Tested: NO; Creator and Date: *; Footprint Verified By: *; Schematic Verified By: *; Vendor Info Verified By: *
footprint Mounting Hole 1/4-20 A (1/4-20 Clearance, loose fit)
pins: 1

## Mounting Hole 1mm, 3mm
designator MH?  (value not drawn)  (no BOM)
1mm hole, 3mm ring, plated
footprint Mounting Hole 1mm (1mm hole for thread or suture)
pins: 0

## Mounting Hole 2mm, 3mm
designator MH?  (value not drawn)  (no BOM)
2mm hole, 3mm ring, plated
footprint Mounting Hole 2mm (2mm hole for thread or suture)
pins: 0

## MS5803-30BA Pressure Sensor
designator U?, comment MS5803-30BA
Pressure Sensor 30 Bar depth; Fabrication Tested: NO; Creator and Date: Will Flanery 2011-08-01; Footprint Verified By: *; Schematic Verified By: *; Vendor Info Verified By: *; Value: MS5803-30BA; HelpURL: http://meas-spec.com/downloads/MS5803-30BA.pdf; Mass (place origin at center): *; Supplier 1: MEAS - Fremont, Call 510-498-1570 x2508; Supplier Part Number 1: MS5803-30BA
footprint MS5803_Pressure (MS5803 Measurment Specialties Depth/Altitude Sensors)
pins: 1 SCL, 2 GND, 3 ~{CS}, 4 NC, 5 VDD (power), 6 PS, 7 SDI/SDA, 8 SDO

## MSP430F2002 QFN
designator U?, comment MSP430F2002 QFN16
TI Microcontroller; Fabrication Tested: NO; Inventory Location: None; Creator and Date: *; Footprint Verified By: *; Schematic Verified By: *; Vendor Info Verified By: *
pins: 1 VCC (power), 2 P1.0/TACLK/ACLK/A0 (io), 3 P1.1/TA0/A1 (io), 4 P1.2/TA1/A2 (io), 5 P1.3/ADC10CLK/A3/VREF-/VeREF- (io), 6 P1.4/SMCLK/A4/VREF+/VeREF+/TCK (io), 7 P1.5/TA0/A5/SCLK/TMS (io), 8 P1.6/TA1/A6/SDO/SCL/TDI/TCLK (io), 9 P1.7/A7/SDI/SDA/TDO/TDI (io), 10 RST*/NMI/SBWTDIO (in), 11 TEST/SBWTCK (in), 12 XOUT/P2.7 (io), 13 XIN/P2.6/TA1 (io), 14 VSS (io)

## MSP430F2002 TSOP14
designator U?, comment MSP430F2002 TSSOP  Supplier 1: Digi-Key  Supplier Part Number 1: 296-19725-1-ND
TI Microcontroller; Fabrication Tested: YES; Schematic Verified By: Will Flanery; Inventory Location: IFF Box1T1C1; Creator and Date: *; Footprint Verified By: Will Flanery; Vendor Info Verified By: *
footprint TSOP14 65P640X120-14N (TSOP, 14-Leads, Body 5.1x4.5mm (max), Pitch 0.65mm, IPC Medium Density)
pins: 1 VCC (power), 2 P1.0/TACLK/ACLK/A0 (io), 3 P1.1/TA0/A1 (io), 4 P1.2/TA1/A2 (io), 5 P1.3/ADC10CLK/A3/VREF-/VeREF- (io), 6 P1.4/SMCLK/A4/VREF+/VeREF+/TCK (io), 7 P1.5/TA0/A5/SCLK/TMS (io), 8 P1.6/TA1/A6/SDO/SCL/TDI/TCLK (io), 9 P1.7/A7/SDI/SDA/TDO/TDI (io), 10 RST*/NMI/SBWTDIO (in), 11 TEST/SBWTCK (in), 12 XOUT/P2.7 (io), 13 XIN/P2.6/TA1 (io), 14 VSS (io)

## MSP430F2012 TQFN16
designator U?, comment MSP430F2012 QFN
TI Microcontroller; Fabrication Tested: NO; Inventory Location: None; Creator and Date: Will Flanery 2010-08-20; Footprint Verified By: *; Schematic Verified By: *; Vendor Info Verified By: *; Supplier 1: Newark; Supplier Part Number 1: 88K5740; Supplier 2: Digi-Key; Supplier Part Number 2: 296-19735-1-ND
footprint QFN16 TI RSA (TI's RSA (S-PVQFN-N16))
pins: 1 P1.0/TACLK/ACLK/A0 (io), 2 P1.1/TA0/A1 (io), 3 P1.2/TA1/A2 (io), 4 P1.3/ADC10CLK/A3/VREF-/VeREF- (io), 5 P1.4/SMCLK/A4/VREF+/VeREF+/TCK (io), 6 P1.5/TA0/A5/SCLK/TMS (io), 7 P1.6/TA1/A6/SDO/SCL/TDI/TCLK (io), 8 P1.7/A7/SDI/SDA/TDO/TDI (io), 9 RST*/NMI/SBWTDIO (in), 10 TEST/SBWTCK (in), 11 XOUT/P2.7 (io), 12 XIN/P2.6/TA1 (io), 13 AVSS, 14 DVSS (power), 15 AVCC (power), 16 DVCC (power)

## MSP430F2012 TSOP14
designator U?, comment MSP430F2012 TSSOP  Supplier 1: Newark  Supplier Part Number 1: 99K3822  Supplier 2: Digi-Key  Supplier Part Number 2: 296-19731-1-ND
TI Microcontroller; Fabrication Tested: NO; Inventory Location: None; Creator and Date: *; Footprint Verified By: *; Schematic Verified By: *; Vendor Info Verified By: *
footprint TSOP14 65P640X120-14N (TSOP, 14-Leads, Body 5.1x4.5mm (max), Pitch 0.65mm, IPC Medium Density)
pins: 1 VCC (power), 2 P1.0/TACLK/ACLK/A0 (io), 3 P1.1/TA0/A1 (io), 4 P1.2/TA1/A2 (io), 5 P1.3/ADC10CLK/A3/VREF-/VeREF- (io), 6 P1.4/SMCLK/A4/VREF+/VeREF+/TCK (io), 7 P1.5/TA0/A5/SCLK/TMS (io), 8 P1.6/TA1/A6/SDO/SCL/TDI/TCLK (io), 9 P1.7/A7/SDI/SDA/TDO/TDI (io), 10 RST*/NMI/SBWTDIO (in), 11 TEST/SBWTCK (in), 12 XOUT/P2.7 (io), 13 XIN/P2.6/TA1 (io), 14 VSS (io)

## MSP430F2121idgv
designator U?, comment MSP430F2121 4kFlash
SymName: msp430f2121idgv; SlotXofY: SYM 1 OF 1; Instance: ?; RefLocation: ?; BoardLocation: ?; PartName: MSP430F2121 4kFlash
pins: 1 TEST (in), 2 VCC (power), 3 P2.5/CA5 (io), 4 VSS (io), 5 XOUT/P2.7/CA7 (io), 6 XIN/P2.6/CA6 (io), 7 RST*/NMI (in), 8 P2.0/ACLK/CA2 (io), 9 P2.1/INCLK/CA3 (io), 10 P2.2/CAOUT/TA0/CA4 (io), 11 P2.3/TA1/CA0 (io), 12 P2.4/TA2/CA1 (io), 13 P1.0/TACLK (io), 14 P1.1/TA0 (io), 15 P1.2/TA1 (io), 16 P1.3/TA2 (io), 17 P1.4/SMCLK/TCK (io), 18 P1.5/TA0/TMS (io), 19 P1.6/TA1/TDI/TCLK (io), 20 P1.7/TA2/TDO/TDI (io)

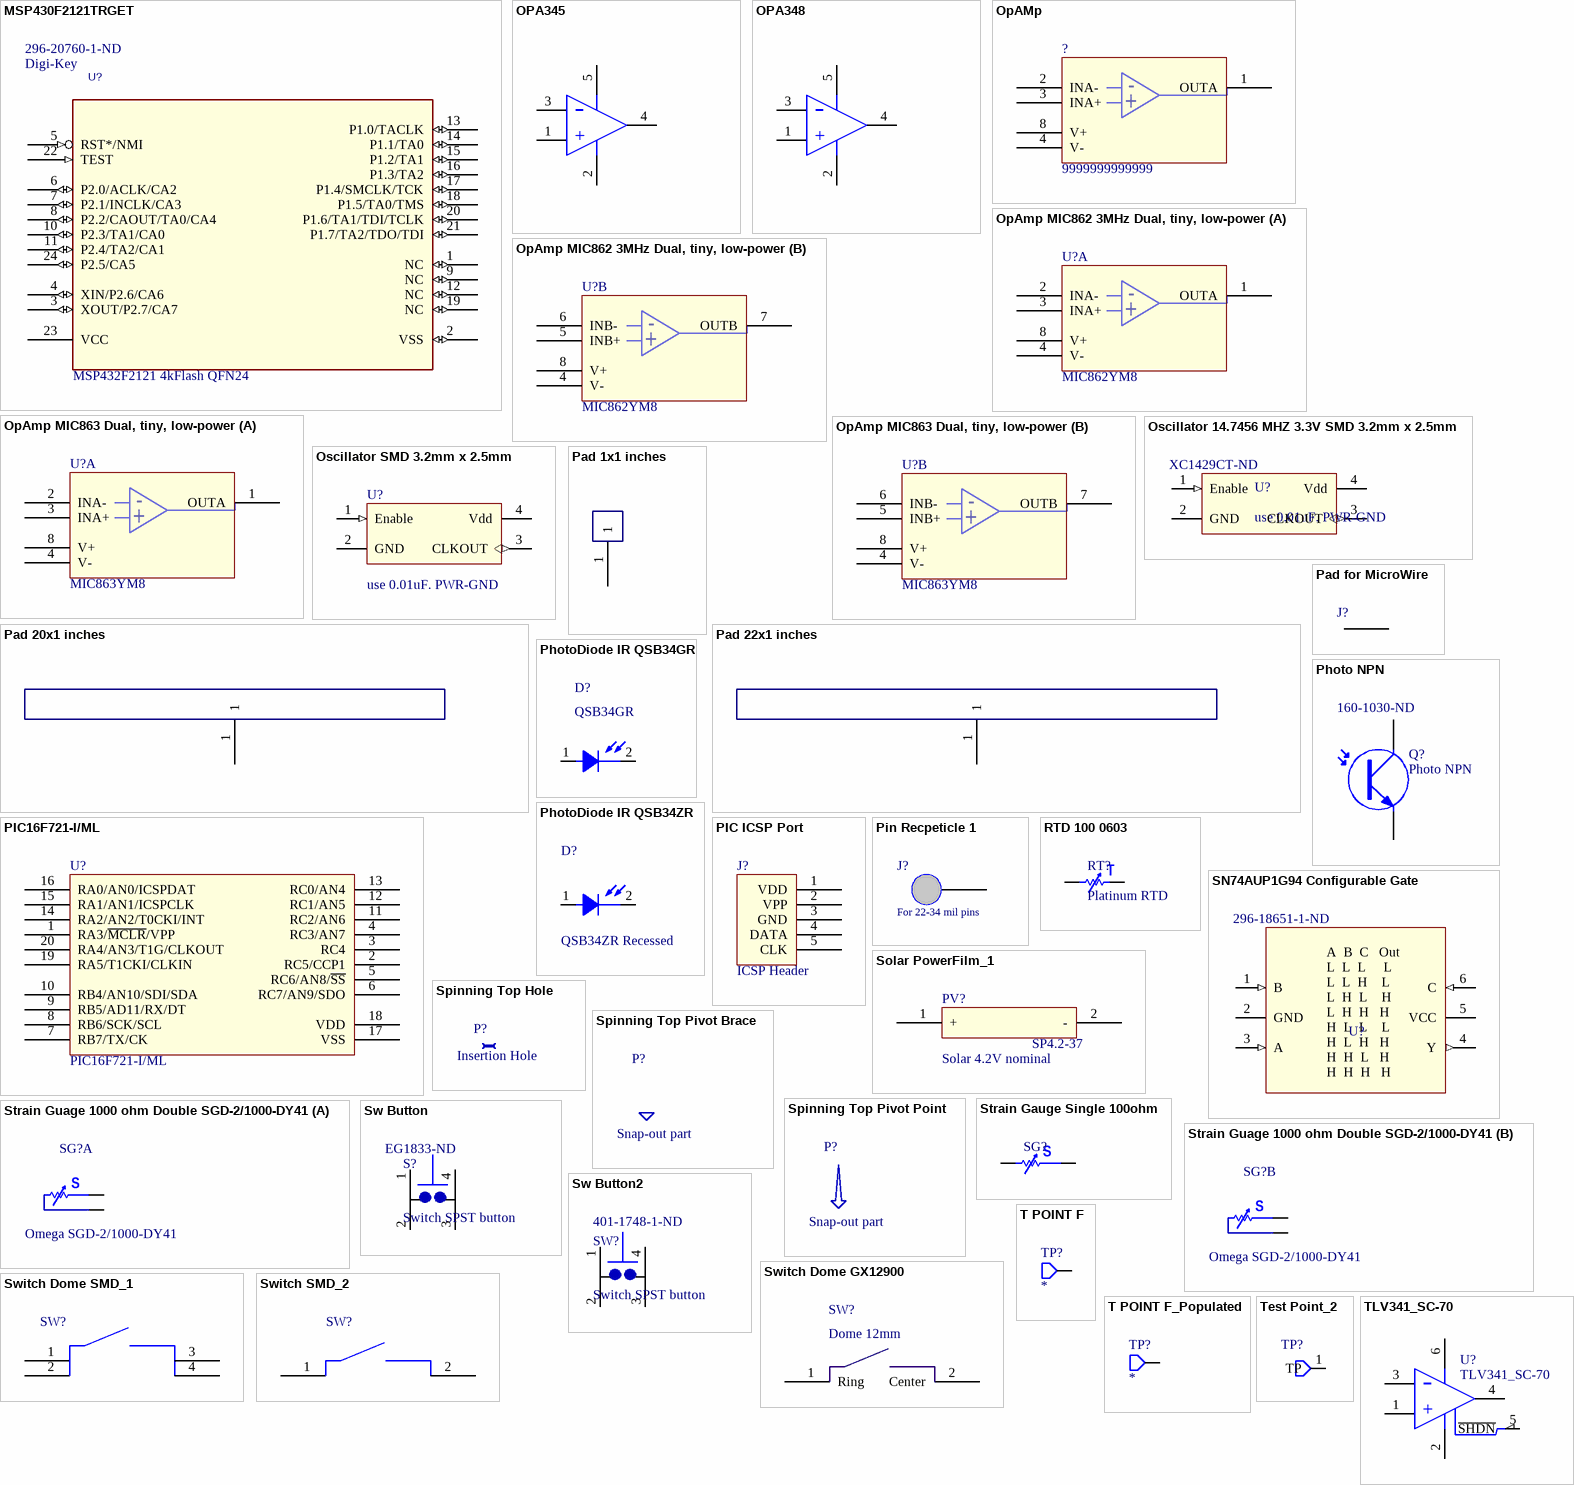
[diagram p3: symbols MSP430F2121TRGET to TLV341_SC-70]

## MSP430F2121TRGET
designator U?, comment MSP432F2121 4kFlash QFN24  Supplier 1: Digi-Key  Supplier Part Number 1: 296-20760-1-ND
SymName: msp430f2121trget; SlotXofY: SYM 1 OF 1; Inventory Location: IFF Box1T1C5; BoardLocation: ?; Instance: ?; RefLocation: ?; PartName: MSP432F2121 4kFlash QFN24
footprint QFN24_1 (QFN127P600-8N)
pins: 1 NC (io), 2 VSS (io), 3 XOUT/P2.7/CA7 (io), 4 XIN/P2.6/CA6 (io), 5 RST*/NMI (in), 6 P2.0/ACLK/CA2 (io), 7 P2.1/INCLK/CA3 (io), 8 P2.2/CAOUT/TA0/CA4 (io), 9 NC (io), 10 P2.3/TA1/CA0 (io), 11 P2.4/TA2/CA1 (io), 12 NC (io), 13 P1.0/TACLK (io), 14 P1.1/TA0 (io), 15 P1.2/TA1 (io), 16 P1.3/TA2 (io), 17 P1.4/SMCLK/TCK (io), 18 P1.5/TA0/TMS (io), 19 NC (io), 20 P1.6/TA1/TDI/TCLK (io), 21 P1.7/TA2/TDO/TDI (io), 22 TEST (in), 23 VCC (power), 24 P2.5/CA5 (io)

## OPA345
designator U?
Single Op-Amp 3MHz 2.5-5.5V 150uA
simulation model OPA348 (OPA348 SPICE Macro-model)
pins: 1 IN+, 2 V-, 3 IN-, 4 OUT, 5 V+
text: -; +

## OPA348
designator U?
simulation model OPA348 (OPA348 SPICE Macro-model)
pins: 1 IN+, 2 V-, 3 IN-, 4 OUT, 5 V+
text: -; +

## OpAMp
designator ?, comment 9999999999999
New Component; Fabrication Tested: NO; Creator and Date: Design Engineer's Name; Footprint Verified By: *; Schematic Verified By: *; Vendor Info Verified By: *; Value: 9999999999999; HelpURL: *; Mass (place origin at center): *
pins: 1 OUTA, 2 INA-, 3 INA+, 4 V- (power), 8 V+ (power)
text: -; +

## OpAmp MIC862 3MHz Dual, tiny, low-power
designator U?, comment MIC862YM8
Dual 31uA/ch, 3MHzGBP, SOT-23-8; HelpURL: http://www.micrel.com/_PDF/mic862.pdf; Supplier 1: Digi-Key; Supplier Part Number 1: 576-2933-1-ND; Supplier 2: Newark; Supplier Part Number 2: 26M1576
footprint SOT-23-8 TSOP65P280X145-8L (TSOP, 8-Leads, Body 3.0x1.8mm (max), Pitch 0.65mm, IPC High Density)
pins on every part: 4 V- (power), 8 V+ (power)
part A pins: 1 OUTA, 2 INA-, 3 INA+
part B pins: 5 INB+, 6 INB-, 7 OUTB
part A text: -; +
part B text: -; +

## OpAmp MIC863 Dual, tiny, low-power
designator U?, comment MIC863YM8
Dual 4.2uA/ch, 450kHzGBP, SOT-23-8; Supplier 1: Digi-Key; Supplier Part Number 1: 576-2934-1-ND
footprint SOT-23-8 TSOP65P280X145-8L (TSOP, 8-Leads, Body 3.0x1.8mm (max), Pitch 0.65mm, IPC High Density)
pins on every part: 4 V- (power), 8 V+ (power)
part A pins: 1 OUTA, 2 INA-, 3 INA+
part B pins: 5 INB+, 6 INB-, 7 OUTB
part A text: -; +
part B text: -; +

## Oscillator 14.7456 MHZ 3.3V SMD 3.2mm x 2.5mm
designator U?, comment use 0.01uF. PWR-GND  Supplier Part Number 1: XC1429CT-ND
Supplier 1: Digi-Key
footprint OSC 3.2mm x 2.5mm
pins: 1 Enable (in), 2 GND (power), 3 CLKOUT (out), 4 Vdd (power)

## Oscillator SMD 3.2mm x 2.5mm
designator U?, comment use 0.01uF. PWR-GND
footprint OSC 3.2mm x 2.5mm
pins: 1 Enable (in), 2 GND (power), 3 CLKOUT (out), 4 Vdd (power)

## Pad 1x1 inches
designator J?
Fabrication Tested: NO; Creator and Date: Will Flanery 2010-06-23; Footprint Verified By: *; Schematic Verified By: *; Vendor Info Verified By: *
footprint BusBar 1x1 inches
pins: 1

## Pad 20x1 inches
designator J?
Fabrication Tested: NO; Creator and Date: Will Flanery 2010-06-23; Footprint Verified By: *; Schematic Verified By: *; Vendor Info Verified By: *
footprint BusBar 20x1 inches
pins: 1

## Pad 22x1 inches
designator J?
Fabrication Tested: NO; Creator and Date: Will Flanery 2010-06-23; Footprint Verified By: *; Schematic Verified By: *; Vendor Info Verified By: *
footprint BusBar 22x1 inches
pins: 1

## Pad for MicroWire
designator J?  (value not drawn)  (no BOM)
footprint Pad - microwire through-hole
pins: 1

## Photo NPN
designator Q?  Supplier Part Number 1: 160-1030-ND
NPN Phototransistor; Published: 24-Mar-1999; LatestRevisionDate: 17-Jul-2002; LatestRevisionNote: Re-released for DXP Platform.; PackageReference: TO-220_A; Publisher: Altium Limited; Code_JEDEC: TO-220-AC; Supplier 1: Digi-Key
footprint T-1 A (3mm LED, phototransistor, photodiode)
pins: 1 E, 2 C

## PhotoDiode IR QSB34GR
designator D?, comment QSB34GR
IR Photodiode SMD Top-Mount; Fabrication Tested: NO; Inventory Location: IFF Box1T2C1; Creator and Date: Will Flanery 2010-02-11; Footprint Verified By: *; Schematic Verified By: *; Vendor Info Verified By: *; Supplier 1: Mouser; Supplier Part Number 1: 512-QSB34GR; Supplier 2: Digi-Key; Supplier Part Number 2: QSB34GR-ND
footprint QSB34GR (Over-board mount)
pins: 1 ANODE, 2 CATHODE

## PhotoDiode IR QSB34ZR
designator D?, comment QSB34ZR Recessed
IR Photodiode SMD Bottom-Mount; Fabrication Tested: NO; Inventory Location: IFF Box1T3A1; Creator and Date: Will Flanery 2010-02-11; Footprint Verified By: *; Schematic Verified By: *; Vendor Info Verified By: *; Supplier 1: Mouser; Supplier Part Number 1: 512-QSB34ZR; Supplier 2: Digi-Key; Supplier Part Number 2: QSB34ZR-ND
footprint QSB34ZR-recessed (Under-board mount)
pins: 1 ANODE, 2 CATHODE

## PIC16F721-I/ML
designator U?
QFN-20 low-cost 8-bit MCU; Fabrication Tested: NO; Creator and Date: Will Flanery 2001-05-18; Footprint Verified By: *; Schematic Verified By: *; Vendor Info Verified By: *; HelpURL: http://ww1.microchip.com/downloads/en/DeviceDoc/41402A.pdf; Mass (place origin at center): *; Supplier 1: Newark; Supplier 2: Digi-Key; Supplier Part Number 1: 73R8410; Supplier Part Number 2: PIC16F721-I/ML-ND
footprint QFN-20 with thermal QFN50P400X400X90-20L (QFN, 20-Leads, Body 4.0x4.0mm (max), Pitch 0.50mm, IPC High Density)
pins: 1 RA3/~{MCLR}/VPP, 2 RC5/CCP1, 3 RC4, 4 RC3/AN7, 5 RC6/AN8/~{SS}, 6 RC7/AN9/SDO, 7 RB7/TX/CK, 8 RB6/SCK/SCL, 9 RB5/AD11/RX/DT, 10 RB4/AN10/SDI/SDA, 11 RC2/AN6, 12 RC1/AN5, 13 RC0/AN4, 14 RA2/AN2/T0CKI/INT, 15 RA1/AN1/ICSPCLK, 16 RA0/AN0/ICSPDAT, 17 VSS, 18 VDD, 19 RA5/T1CKI/CLKIN, 20 RA4/AN3/T1G/CLKOUT

## PIC ICSP Port
designator J?, comment ICSP Header
In Circuit Serial Programming Port Header; Fabrication Tested: NO; Creator and Date: Design Engineer's Name; Footprint Verified By: *; Schematic Verified By: *; Vendor Info Verified By: *; HelpURL: *; Mass (place origin at center): *
footprint Header .100x5 (100 mil, 5 pos)
pins: 1 VDD, 2 VPP, 3 GND, 4 DATA, 5 CLK

## Pin Recpeticle 1
designator J?, comment For 22-34 mil pins
.022-.034" pins (23-20AWG) open-bottom pin socket; Fabrication Tested: NO; Creator and Date: Will Flanery 2010-07-06; Footprint Verified By: *; Schematic Verified By: *; Vendor Info Verified By: *; Supplier 1: Digi-Key; Supplier Part Number 1: ED90283CT-ND; Supplier 2: Digi-Key; Supplier Part Number 2: ED90283TR-ND
footprint Pin Recepticle 1, 22-34 mil pins (Open-bottom pin socket for 22 to 34 mil pins (23-20 AWG))
pins: 1

## RTD 100 0603
designator RT?, comment Platinum RTD
Value: 100 Ohm; Supplier 1: Digi-Key; Supplier Part Number 1: PTS0603100CT-ND
footprint R-0603 body (Chip Resistor; Body 1.6 x 0.9 mm (LxW typ))
pins: 1, 2
text: T

## SN74AUP1G94 Configurable Gate
designator U?  Supplier Part Number 1: 296-18651-1-ND  (hidden comment: *)
Configurable gate; Supplier 1: Digi-Key
footprint Model Name (Footprint not found)
footprint SOT-6 (SOT Tiny 6-pin 1.7mm x 1.3mm)
pins: 1 B (in), 2 GND (power), 3 A (in), 4 Y (out), 5 VCC (power), 6 C (in)
text: A  B  C   Out / L  L  L     L / L  L  H    L / L  H  L    H / L  H  H   H / H  L  L    L / H  L  H   H / H  H  L   H / H  H  H   H

## Solar PowerFilm_1
designator PV?, comment Solar 4.2V nominal  Supplier Part Number 1: SP4.2-37
PowerFilm 4V SP4.2-37 cut to 3.3"x1"; Manufacturer: PowerFilm Inc.; Fabrication Tested: NO; Creator and Date: Will Flanery; Footprint Verified By: *; Schematic Verified By: *; Vendor Info Verified By: *; Supplier 1: AvNet
footprint SolarCell_1 (For PowerFilm SP4.2-37 flexible solar cell 1.5"x3.3"x0.007")
pins: 1 +, 2 -

## Spinning Top Hole
designator P?, comment Insertion Hole  (no BOM)
for 31-mil PCB; Fabrication Tested: NO; Value: 9999999999999; Creator and Date: Will Flanery 2011-05-22; Footprint Verified By: *; Schematic Verified By: *; Vendor Info Verified By: *; HelpURL: *; Mass (place origin at center): *
footprint Spinning Top knob insertion hole (For 31-mil PCB)
footprint Spinning Top knob insertion hole (For 31-mil PCB)

## Spinning Top Pivot Brace
designator P?, comment Snap-out part  (no BOM)
31-mil PCB; Fabrication Tested: NO; Value: 9999999999999; Creator and Date: Will Flanery 2011-05-22; Footprint Verified By: *; Schematic Verified By: *; Vendor Info Verified By: *; HelpURL: *; Mass (place origin at center): *
footprint Spinning Top Pivot Brace (For stabilizing the pivot point)

## Spinning Top Pivot Point
designator P?, comment Snap-out part  (no BOM)
31-mil PCB; Fabrication Tested: NO; Value: 9999999999999; Creator and Date: Will Flanery 2011-05-22; Footprint Verified By: *; Schematic Verified By: *; Vendor Info Verified By: *; HelpURL: *; Mass (place origin at center): *
footprint Spinning Top Pivot Point_2 (Snap-out Arrow for spinning top with wire handle)

## Strain Gauge Single 100ohm
designator SG?  (value not drawn)
pins: 1, 2
text: S

## Strain Guage 1000 ohm Double SGD-2/1000-DY41
designator SG?, comment Omega SGD-2/1000-DY41
footprint Strain Guage (Omega SGD-2/1000-DY41)
part A pins: 1, 2
part B pins: 3, 4
part A text: S
part B text: S

## Sw Button
designator S?, comment Switch SPST button  Supplier Part Number 1: EG1833-ND
Tactile Switch, SPST; Thru-Hole; Vertical; Rating DC 12V, 50mA (max); PackageDocument: Rev.0; DatasheetDocument: Rev.0; ComponentLink1Description: Manufacturer Link; ComponentLink2Description: Device Overview; Supplier 1: Digi-Key
footprint SW PUSHBUTTON (SPST THROUGH-HOLE, TALL BUTTON)
pins: 1, 2, 3, 4

## Sw Button2
designator SW?, comment Switch SPST button  Supplier Part Number 1: 401-1748-1-ND
Tactile Switch, SPST; SMD J-wing; Vertical; PackageDocument: Rev.0; DatasheetDocument: Rev.0; ComponentLink1Description: Manufacturer Link; ComponentLink2Description: Device Overview; Supplier 1: Digi-Key
footprint Switch SPST 6.2x6.2x7.7mm (C&K Components KSCxxxJxxx (J-wing))
pins: 1, 2, 3, 4

## Switch Dome GX12900
designator SW?, comment Dome 12mm
Dome Switch, Snaptron 12mm, high-force 900g; Fabrication Tested: NO; Inventory Location: IFF Box1T3C4; Creator and Date: Will Flanery 2010-02-12; Footprint Verified By: *; Schematic Verified By: *; Vendor Info Verified By: *; Supplier 1: snaptron.com 970-686-5682; Supplier Part Number 1: GX12900
footprint Switch Dome 12mm (Snaptron Dome Switch singoe-side layout)
pins: 1 Ring, 2 Center

## Switch Dome SMD_1
designator SW?
250 GRAMS FORCE; Fabrication Tested: NO; Inventory Location: IFF Box1T3C1; Creator and Date: Will Flanerry 3/19/2010; Footprint Verified By: *; Schematic Verified By: *; Vendor Info Verified By: *; Supplier 1: Digi-Key; Supplier Part Number 1: EG4622CT-ND
footprint Switch Dome SMD_1 (4-pin SMD Dome Switch EG4622CT-ND)
pins: 1 A, 2 A, 3 B, 4 B

## Switch SMD_2
designator SW?
Fabrication Tested: NO; Creator and Date: *; Footprint Verified By: *; Schematic Verified By: *; Vendor Info Verified By: *; Supplier 1: Digi-Key; Supplier Part Number 1: SW1020CT-ND
footprint SWITCH_SMD_2 (Tiny, no boss, no GND, Omron B3U-1000P)
pins: 1, 2

## T POINT F
designator TP?  (no BOM)
Just a Pad.  not-populated, no BOM entry, no solder paste.; Inventory Location: None; Supplier 1: Digi-Key; Supplier Part Number 1: 5016KCT-ND
footprint TP-SURF - Non-Pop (Not populated (no solder paste))
pins: 1 TP

## T POINT F_Populated
designator TP?
Populated with clip-on test-point, includes solder paste def.; Supplier 1: Digi-Key; Supplier Part Number 1: 5016KCT-ND
footprint TP-SURF
pins: 1 TP

## Test Point_2
designator TP?  (no BOM)
Through-hole Test Point, 50mil; Fabrication Tested: NO; Creator and Date: Will Flanery 2010-02-12; Footprint Verified By: *; Schematic Verified By: *; Vendor Info Verified By: *
footprint TestPoint_50mil (Single 40-mil hole for standard 25mil-square header pins)
pins: 1 TP

## TLV341_SC-70
designator U?
Single OpAmp 2.3MHz 1.8-5V 70uA; Inventory Location: IFF Box1T1C2; Supplier 1: Digi-Key; Supplier Part Number 1: 296-17683-1-ND; Supplier 2: Digi-Key; Supplier Part Number 2: 296-17681-1-ND
simulation model TLV34X (Model Description)
footprint SC-70-6 TSOP65P210X110-6N (SC-70, 6-Leads, Body 2.2x1.4mm (max), Pitch 0.65mm, IPC Medium Density)
pins: 1 IN+, 2 V-, 3 IN-, 4 OUT, 5 ~{SHDN}, 6 V+
text: -; +

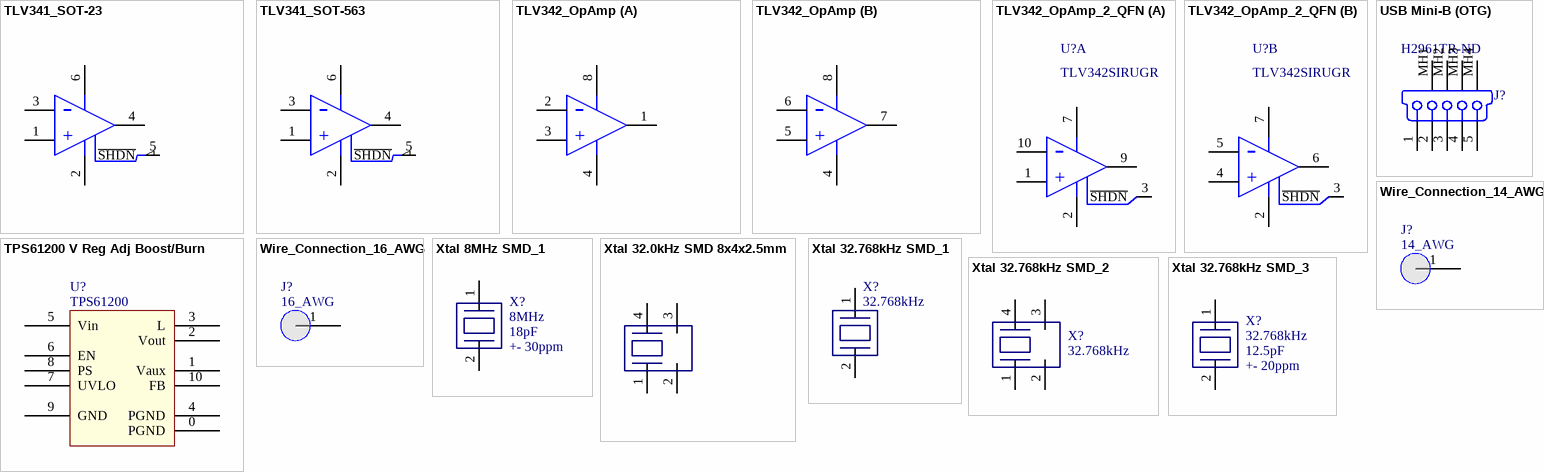
[diagram p4: symbols TLV341_SOT-23 to Xtal 32.768kHz SMD_3]

## TLV341_SOT-23
designator U?
Single OpAmp 2.3MHz 1.8-5V 70uA; Inventory Location: None; Supplier 1: Digi-Key; Supplier Part Number 1: 296-17682-6-ND; Supplier 2: Digi-Key; Supplier Part Number 2: 296-17680-1-ND; Supplier 3: Digi-Key; Supplier Part Number 3: 296-17680-6-ND
simulation model TLV34X (Model Description)
footprint SOT23 95P280X145-6N (SOT23, 6-Leads, Body 3.0x3.0mm (max), Pitch 0.95mm, IPC Medium Density)
pins: 1 IN+, 2 V-, 3 IN-, 4 OUT, 5 ~{SHDN}, 6 V+
text: -; +

## TLV341_SOT-563
designator U?
Fabrication Tested: NO; Inventory Location: IFF Box1T3A4; Creator and Date: Will Flanery 2010-02-10; Footprint Verified By: *; Schematic Verified By: *; Vendor Info Verified By: *; Supplier 1: Mouser; Supplier Part Number 1: 595-TLV34IDRLR
footprint SOT-563 50P160X60-6N (SOT-563, 6-Leads, Body 1.7x1.7mm (max), Pitch 0.50mm, IPC Medium Density)
pins: 1 IN+, 2 V-, 3 IN-, 4 OUT, 5 ~{SHDN}, 6 V+
text: -; +